# Altium footprint library VG039NCHXTB502.PcbLib: 1 footprints
Each footprint in its own frame and in the unit in brackets; x right, y up, seen from the top. Pads: shape width x height; smd on the part's side, far side on the other; paste and mask are expansions set on the pad; w line width, h text height; cw(c..) or ccw(c..) is an arc to the next point about the centre after c.
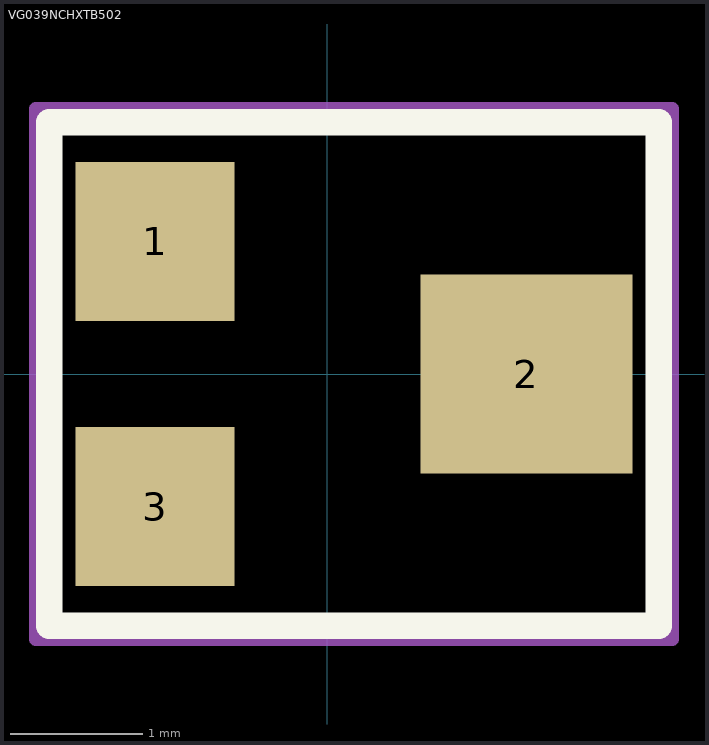
[diagram p0: the footprint, top view; thin cyan lines are the x and y axes]

## VG039NCHXTB502 [mm]
height 1.1
pads (3):
  rect 1.2x1.2 smd: 1(-1.3,1) 3(-1.3,-1)
  rect 1.6x1.5 smd: 2(1.5,0)
Top Overlay:
  lines w0.2: -2.1,-1.9 -2.1,1.9 2.5,1.9 2.5,-1.9 -2.1,-1.9
Top Assembly:
  lines w0.1: -2.2,-2 -2.2,2 2.6,2 2.6,-2 -2.2,-2
  text "'.Designator'" at 0,0 h0.7